# Altium footprint library 09564527612.PcbLib: 1 footprints
Each footprint in its own frame and in the unit in brackets; x right, y up, seen from the top. Pads: shape width x height; smd on the part's side, far side on the other; paste and mask are expansions set on the pad; w line width, h text height; cw(c..) or ccw(c..) is an arc to the next point about the centre after c.
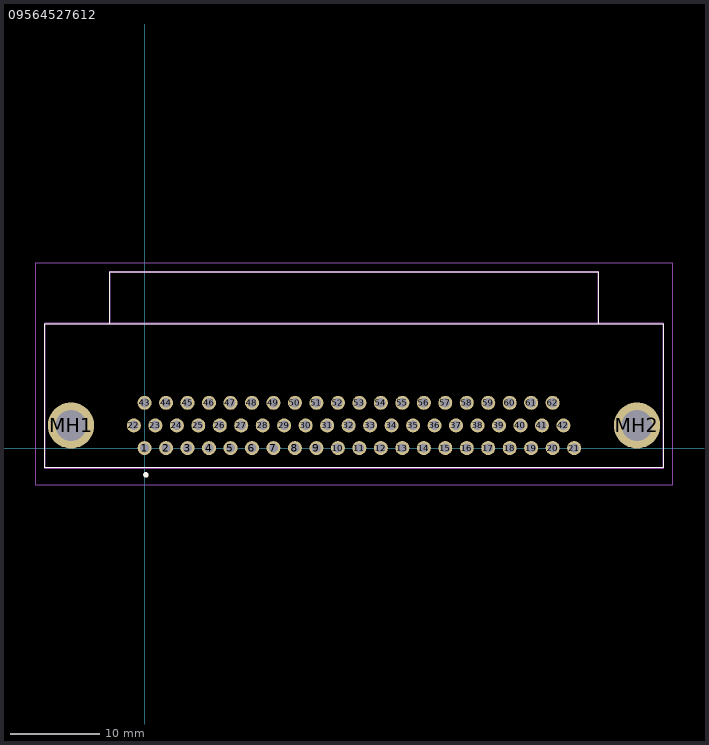
[diagram p0: the footprint, top view; thin cyan lines are the x and y axes]

## 09564527612 [mm]
pads (64):
  round 1.575 hole 1.05: 1(0,0) 2(2.41,0) 3(4.82,0) 4(7.23,0) 5(9.64,0) 6(12.05,0) 7(14.46,0) 8(16.87,0) 9(19.28,0) 10(21.69,0) 11(24.1,0) 12(26.51,0) 13(28.92,0) 14(31.33,0) 15(33.74,0) 16(36.15,0) 17(38.56,0) 18(40.97,0) 19(43.38,0) 20(45.79,0) 21(48.2,0) 22(-1.205,2.54) 23(1.205,2.54) 24(3.615,2.54) 25(6.025,2.54) 26(8.435,2.54) 27(10.845,2.54) 28(13.255,2.54) 29(15.665,2.54) 30(18.075,2.54) 31(20.485,2.54) 32(22.895,2.54) 33(25.305,2.54) 34(27.715,2.54) 35(30.125,2.54) 36(32.535,2.54) 37(34.945,2.54) 38(37.355,2.54) 39(39.765,2.54) 40(42.175,2.54) 41(44.585,2.54) 42(46.995,2.54) 43(0,5.08) 44(2.41,5.08) 45(4.82,5.08) 46(7.23,5.08) 47(9.64,5.08) 48(12.05,5.08) 49(14.46,5.08) 50(16.87,5.08) 51(19.28,5.08) 52(21.69,5.08) 53(24.1,5.08) 54(26.51,5.08) 55(28.92,5.08) 56(31.33,5.08) 57(33.74,5.08) 58(36.15,5.08) 59(38.56,5.08) 60(40.97,5.08) 61(43.38,5.08) 62(45.79,5.08)
  round 5.175 hole 3.45: MH1(-8.253,2.54) MH2(55.248,2.54)
Top Overlay:
  lines w0.1: -3.902,13.97 -3.902,19.77 50.897,19.77 50.897,13.97 ; -11.203,-2.23 58.198,-2.23 58.198,13.97 -11.203,13.97 -11.203,-2.23
  lines w0.3: 0,-3 0,-3 ; 0,-3 ccw(c0.15,-3) 0.3,-3 ; 0,-3 cw(c0.15,-3) 0.3,-3 ; 0.3,-3 0.3,-3
Mechanical 15:
  lines w0.2: -3.902,13.97 -3.902,19.77 50.897,19.77 50.897,13.97 ; -11.203,-2.23 58.198,-2.23 58.198,13.97 -11.203,13.97 -11.203,-2.23
Mechanical 20:
  lines w0.1: -12.203,-4.15 59.198,-4.15 59.198,20.77 -12.203,20.77 -12.203,-4.15